# EAGLE library part RTL8723DS-CG (library RTL8723DS-CG)
WQFN-48-EP(6x6) RF Transceiver ICs ROHS Source: Datasheet <https://mangopi.org/_media/rtl8723ds-cg_datasheet_0.92_20170804.pdf>
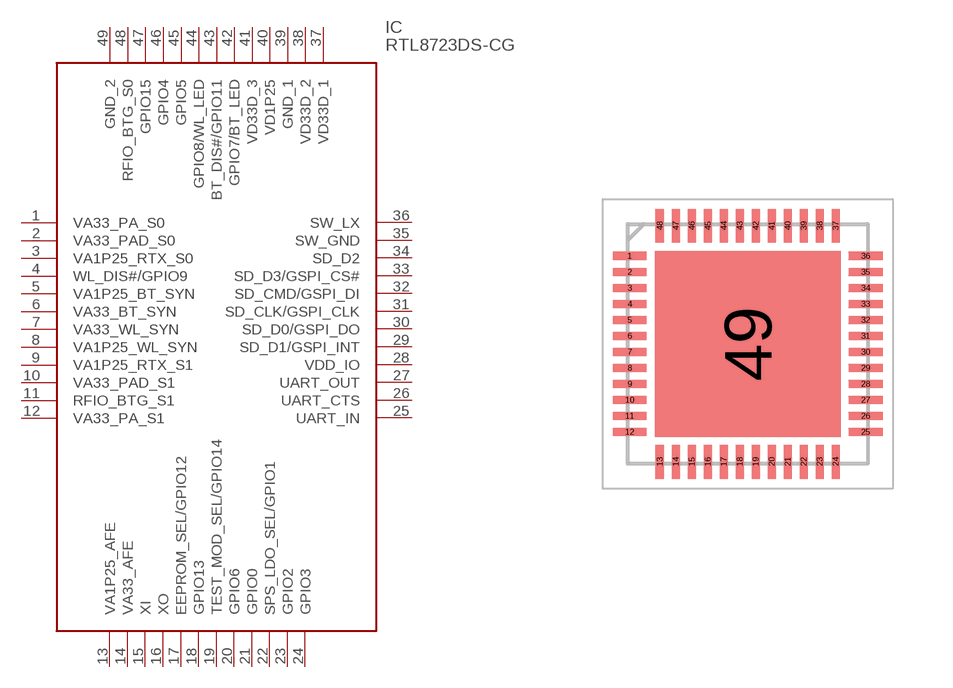
[diagram p0: symbol with the pads of QFN40P600X600X100-49N; footprint QFN40P600X600X100-49N]

Designator prefix IC

## RTL8723DS-CG (Description: WQFN-48-EP(6x6) RF Transceiver ICs ROHS; Height: 1mm; Manufacturer_Name: Realtek; Manufacturer_Part_Number: RTL8723DS-CG)  [QFN40P600X600X100-49N]
1  VA33_PA_S0
2  VA33_PAD_S0
3  VA1P25_RTX_S0
4  WL_DIS#/GPIO9
5  VA1P25_BT_SYN
6  VA33_BT_SYN
7  VA33_WL_SYN
8  VA1P25_WL_SYN
9  VA1P25_RTX_S1
10  VA33_PAD_S1
11  RFIO_BTG_S1
12  VA33_PA_S1
13  VA1P25_AFE
14  VA33_AFE
15  XI
16  XO
17  EEPROM_SEL/GPIO12
18  GPIO13
19  TEST_MOD_SEL/GPIO14
20  GPIO6
21  GPIO0
22  SPS_LDO_SEL/GPIO1
23  GPIO2
24  GPIO3
25  UART_IN
26  UART_CTS
27  UART_OUT
28  VDD_IO
29  SD_D1/GSPI_INT
30  SD_D0/GSPI_DO
31  SD_CLK/GSPI_CLK
32  SD_CMD/GSPI_DI
33  SD_D3/GSPI_CS#
34  SD_D2
35  SW_GND
36  SW_LX
37  VD33D_1
38  VD33D_2
39  GND_1
40  VD1P25
41  VD33D_3
42  GPIO7/BT_LED
43  BT_DIS#/GPIO11
44  GPIO8/WL_LED
45  GPIO5
46  GPIO4
47  GPIO15
48  RFIO_BTG_S0
49  GND_2

## Footprint QFN40P600X600X100-49N (pad centres in mm)
QFN48 6 x 6 mm
smd 0.85 x 0.2: 1 -2.95,2.2; 2 -2.95,1.8; 3 -2.95,1.4; 4 -2.95,1; 5 -2.95,0.6; 6 -2.95,0.2; 7 -2.95,-0.2; 8 -2.95,-0.6; 9 -2.95,-1; 10 -2.95,-1.4; 11 -2.95,-1.8; 12 -2.95,-2.2; 25 2.95,-2.2; 26 2.95,-1.8; 27 2.95,-1.4; 28 2.95,-1; 29 2.95,-0.6; 30 2.95,-0.2; 31 2.95,0.2; 32 2.95,0.6; 33 2.95,1; 34 2.95,1.4; 35 2.95,1.8; 36 2.95,2.2
smd 0.2 x 0.85: 13 -2.2,-2.95; 14 -1.8,-2.95; 15 -1.4,-2.95; 16 -1,-2.95; 17 -0.6,-2.95; 18 -0.2,-2.95; 19 0.2,-2.95; 20 0.6,-2.95; 21 1,-2.95; 22 1.4,-2.95; 23 1.8,-2.95; 24 2.2,-2.95; 37 2.2,2.95; 38 1.8,2.95; 39 1.4,2.95; 40 1,2.95; 41 0.6,2.95; 42 0.2,2.95; 43 -0.2,2.95; 44 -0.6,2.95; 45 -1,2.95; 46 -1.4,2.95; 47 -1.8,2.95; 48 -2.2,2.95
smd 4.65 x 4.65: 49 0,0